# EAGLE library part PINHD-1X15 (library Bits_library_eagle 9x)
PIN HEADER
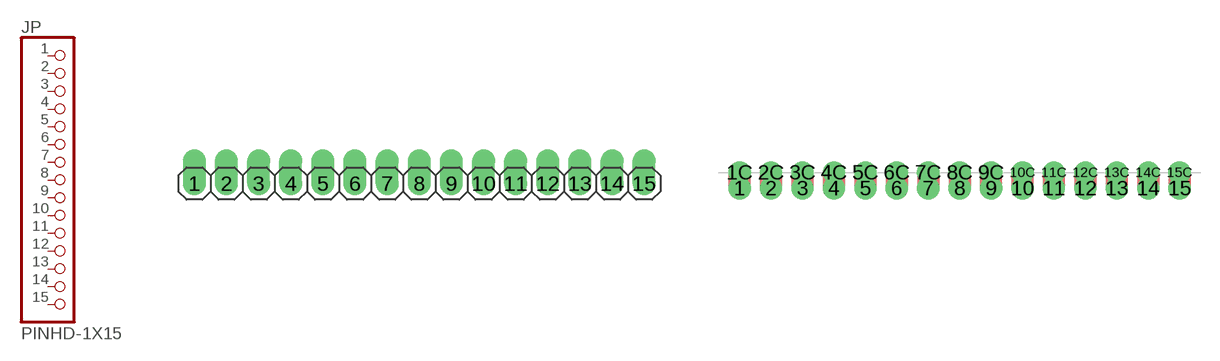
[diagram p94: symbol with the pads of 1X15; footprints 1X15, 1X15-CB]

Designator prefix JP

## PINHD-1X15  [1X15]
1  1  pas
2  2  pas
3  3  pas
4  4  pas
5  5  pas
6  6  pas
7  7  pas
8  8  pas
9  9  pas
10  10  pas
11  11  pas
12  12  pas
13  13  pas
14  14  pas
15  15  pas

## PINHD-1X15-CB  [1X15-CB]
1  1  pas
1C  1  pas
2  2  pas
2C  2  pas
3  3  pas
3C  3  pas
4  4  pas
4C  4  pas
5  5  pas
5C  5  pas
6  6  pas
6C  6  pas
7  7  pas
7C  7  pas
8  8  pas
8C  8  pas
9  9  pas
9C  9  pas
10  10  pas
10C  10  pas
11  11  pas
11C  11  pas
12  12  pas
12C  12  pas
13  13  pas
13C  13  pas
14  14  pas
14C  14  pas
15  15  pas
15C  15  pas

## Footprint 1X15 (pad centres in mm)
PIN HEADER
drill 1 pad 1.8 offset: 1 -17.78,0; 2 -15.24,0; 3 -12.7,0; 4 -10.16,0; 5 -7.62,0; 6 -5.08,0; 7 -2.54,0; 8 0,0; 9 2.54,0; 10 5.08,0; 11 7.62,0; 12 10.16,0; 13 12.7,0; 14 15.24,0; 15 17.78,0

## Footprint 1X15-CB (pad centres in mm)
drill 1 pad 1.8: 1 -17.78,0; 1C -17.78,1.28; 2 -15.24,0; 2C -15.24,1.28; 3 -12.7,0; 3C -12.7,1.28; 4 -10.16,0; 4C -10.16,1.28; 5 -7.62,0; 5C -7.62,1.28; 6 -5.08,0; 6C -5.08,1.28; 7 -2.54,0; 7C -2.54,1.28; 8 0,0; 8C 0,1.28; 9 2.54,0; 9C 2.54,1.28; 10 5.08,0; 10C 5.08,1.28; 11 7.62,0; 11C 7.62,1.28; 12 10.16,0; 12C 10.16,1.28; 13 12.7,0; 13C 12.7,1.28; 14 15.24,0; 14C 15.24,1.28; 15 17.78,0; 15C 17.78,1.28